# Altium schematic symbol library LM2596 Buck Converter.SchLib: 1 symbol
Pins are listed as number, name and electrical type; pins without a type are passive.

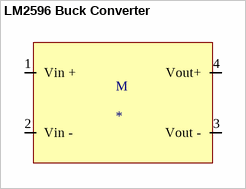
[diagram p0: symbol LM2596 Buck Converter]

## LM2596 Buck Converter
designator M
footprint PCBComponent_1
pins: 1 Vin + (power), 2 Vin - (power), 3 Vout - (power), 4 Vout+ (power)